# EAGLE library part MKL03Z32VFG4 (library controller_board)
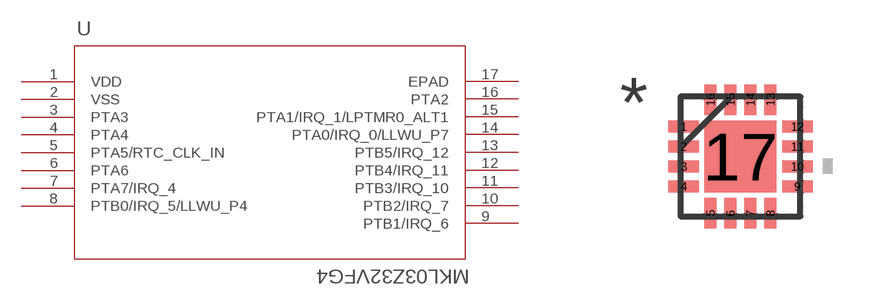
[diagram p1: symbol with the pads of 98ASA00525D; footprint 98ASA00525D]

Designator prefix U

## MKL03Z32VFG4 (MANUFACTURER_PART_NUMBER: mkl03z32vfg4; VENDOR: Freescale)  [98ASA00525D]
1  VDD  pwr
2  VSS  pwr
3  PTA3  pas
4  PTA4  pas
5  PTA5/RTC_CLK_IN  pas
6  PTA6  pas
7  PTA7/IRQ_4  pas
8  PTB0/IRQ_5/LLWU_P4  pas
9  PTB1/IRQ_6  pas
10  PTB2/IRQ_7  pas
11  PTB3/IRQ_10  pas
12  PTB4/IRQ_11  pas
13  PTB5/IRQ_12  pas
14  PTA0/IRQ_0/LLWU_P7  pas
15  PTA1/IRQ_1/LPTMR0_ALT1  pas
16  PTA2  pas
17  EPAD  pas

## Footprint 98ASA00525D (pad centres in mm)
smd 0.762 x 0.305: 1 -1.422,0.75; 2 -1.422,0.25; 3 -1.422,-0.25; 4 -1.422,-0.75; 9 1.422,-0.75; 10 1.422,-0.25; 11 1.422,0.25; 12 1.422,0.75
smd 0.305 x 0.762: 5 -0.75,-1.422; 6 -0.25,-1.422; 7 0.25,-1.422; 8 0.75,-1.422; 13 0.75,1.422; 14 0.25,1.422; 15 -0.25,1.422; 16 -0.75,1.422
smd 1.803 x 1.803: 17 0,0